# Altium integrated library IC_TI National Semiconductor_LM2735XQMF_NOPB.IntLib: 1 symbol
Pins are listed as number, name and electrical type; pins without a type are passive.

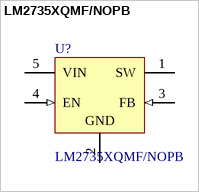
[diagram p0: symbol LM2735XQMF/NOPB]

## LM2735XQMF/NOPB
designator U?
520kHz/1.6MHz - Space-Efficient Boost and SEPIC DC-DC Regulator, 5-pin SOT-23, Pb-Free; Manufacturer: National Semiconductor; PackageTopMarking: SVDB*XTT; CompType: MiscPower; PowerWise: N; ComponentLink1Description: LM2735 Datasheet; ComponentLink2Description: LM2735 Web Page; DatasheetVersion: Feb-2009; PinCount: 5; ComponentLink3Description: MF05A Package Page; ComponentLink1URL: http://www.national.com/ds/LM/LM2735.pdf; RevisionNote: Component URLs added; ComponentLink3URL: http://www.national.com/packaging/folders/mf05a.html; PackageVersion: revD, Aug-2008; PackageReference: MF05A; PackageDescription: Molded SOT-23, .115 x .063 x .040 in Body, 5 Lead, .0375 in Pitch; ComponentLink2URL: http://www.national.com/pf/LM/LM2735.html; RoHS: Y; PartNumber: LM2735XQMF/NOPB
footprint MF05A_M
footprint MF05A_N
footprint MF05A_L
pins: 1 SW (power), 2 GND (power), 3 FB (in), 4 EN (in), 5 VIN (power)